# Altium footprint library Net_Tie.PcbLib: 1 footprints
Each footprint in its own frame and in the unit in brackets; x right, y up, seen from the top. Pads: shape width x height; smd on the part's side, far side on the other; paste and mask are expansions set on the pad; w line width, h text height; cw(c..) or ccw(c..) is an arc to the next point about the centre after c.
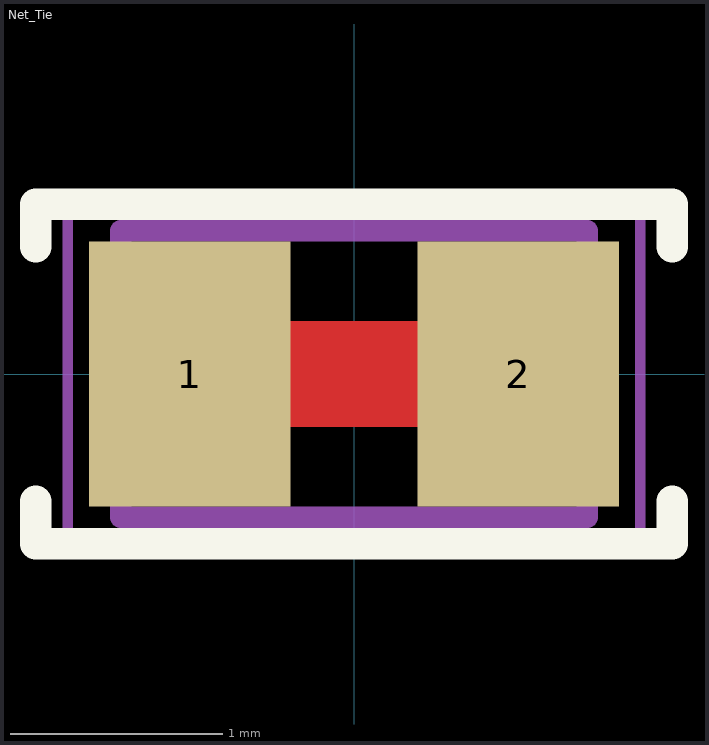
[diagram p0: the footprint, top view; thin cyan lines are the x and y axes]

## Net_Tie [mm] "Chip Resistor, 2-Leads, Body 2.00x1.25mm, IPC High Density"
height 0.7
pads (2):
  rect 0.95x1.25 smd: 1(-0.775,0) 2(0.775,0)
Top Layer:
  lines w0.5: -0.8,0 0.8,0
Top Overlay:
  lines w0.15: -1.5,-0.6 -1.5,-0.8 1.5,-0.8 1.5,-0.6 ; -1.5,0.6 -1.5,0.8 1.5,0.8 1.5,0.6
Mechanical 13:
  lines w0.1: -1.1,-0.675 1.1,-0.675 1.1,0.675 -1.1,0.675 -1.1,-0.675
Mechanical 15:
  lines w0.05: -1.35,-0.8 1.35,-0.8 1.35,0.8 -1.35,0.8 -1.35,-0.8